# Altium schematic symbol library ILD206T.Schlib: 1 symbol
Pins are listed as number, name and electrical type; pins without a type are passive.

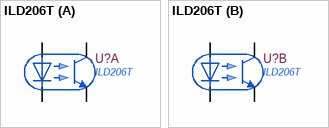
[diagram p0: symbol ILD206T]

## ILD206T
designator U?
OPTOISOLTR 4KV 2CH TRANS 8-SOIC; Manufacturer 1: Vishay Semiconductors; Max Power Dissipation: 300mW; Forward Current: 30mA; Number of Channels: 2; Collector Emitter Voltage (VCEO): 70V; Reverse Breakdown Voltage: 6V; Forward Voltage: 1.55V; Collector Emitter Saturation Voltage: 400mV; Rise Time: 3us; Fall Time: 4.7us; Current Transfer Ratio: 125%; Input Current: 10mA; Voltage Rating (DC): 5V; Approvals: UL; Supplier 1: Digi-Key; Manufacturer Part Number 1: ILD206T; Stock 1: 1775; Pricing 1: 1=1.42000, 10=1.15000, 100=0.70770, 500=0.60154, 1000=0.49539 (USD); RoHS: Yes; Mount: Surface Mount; Case/Package: SOIC; Number of Pins: 8; Contact Plating: Tin; Min Operating Temperature: -55°C; Max Operating Temperature: 100°C; Packaging: Tape and Reel; Package Quantity: 1; Output Voltage: 70V; Max Output Voltage: 70V; Isolation Voltage: 4kV; Max Input Current: 30mA; Number of Elements: 2; Power Dissipation: 300mW; Collector Emitter Breakdown Voltage: 70V; Radiation Hardening: No; REACH SVHC: Unknown; Lead Free: Lead Free; ComponentLink1URL: https://datasheet.ciiva.com/8040/6546-8040800.pdf?src-supplier=Element14; ComponentLink1Description: https://datasheet.ciiva.com/8040/6546-8040800.pdf?src-supplier=Element14; ComponentLink2URL: https://datasheet.ciiva.com/15118/getdatasheetpartid-90557-15118533.pdf?src-supplier=Verical; ComponentLink2Description: https://datasheet.ciiva.com/15118/getdatasheetpartid-90557-15118533.pdf?src-supplier=Verical; ComponentLink3URL: https://datasheet.ciiva.com/11771/0900766b80800ea7-11771944.pdf?src-supplier=RSComponents; ComponentLink3Description: https://datasheet.ciiva.com/11771/0900766b80800ea7-11771944.pdf?src-supplier=RSComponents; ComponentLink4URL: https://datasheet.ciiva.com/14169/wr630131-630134-e-14169304.pdf?src-supplier=Distrelec; ComponentLink4Description: https://datasheet.ciiva.com/14169/wr630131-630134-e-14169304.pdf?src-supplier=Distrelec; ComponentLink5URL: https://datasheet.ciiva.com/29301/153399-da-01-en-optokoppler-ild206-t-soic8-vis-29301383.pdf?src-supplier=Conrad; ComponentLink5Description: https://datasheet.ciiva.com/29301/153399-da-01-en-optokoppler-ild206-t-soic8-vis-29301383.pdf?src-supplier=Conrad; ComponentLink6URL: https://datasheet.ciiva.com/18445/70061477-18445110.pdf?src-supplier=Allied+Electronics; ComponentLink6Description: https://datasheet.ciiva.com/18445/70061477-18445110.pdf?src-supplier=Allied+Electronics; ComponentLink7URL: https://datasheet.ciiva.com/12242/ild205t-244792-12242999.pdf?src-supplier=Mouser; ComponentLink7Description: https://datasheet.ciiva.com/12242/ild205t-244792-12242999.pdf?src-supplier=Mouser; ComponentLink8URL: https://datasheet.ciiva.com/2086/ild205t-2086025.pdf?src-supplier=Digi-Key; ComponentLink8Description: https://datasheet.ciiva.com/2086/ild205t-2086025.pdf?src-supplier=Digi-Key; ComponentLink9URL: https://datasheet.ciiva.com/2086/ild205t-2086026.pdf?src-supplier=Digi-Key; ComponentLink9Description: https://datasheet.ciiva.com/2086/ild205t-2086026.pdf?src-supplier=Digi-Key; ComponentLink10URL: https://datasheet.ciiva.com/2086/ild205t-2086027.pdf?src-supplier=Digi-Key; ComponentLink10Description: https://datasheet.ciiva.com/2086/ild205t-2086027.pdf?src-supplier=Digi-Key; ComponentLink11URL: https://datasheet.ciiva.com/3305/ild205t-3305918.pdf?src-supplier=Avnet; ComponentLink11Description: https://datasheet.ciiva.com/3305/ild205t-3305918.pdf?src-supplier=Avnet; ComponentLink12URL: https://datasheet.ciiva.com/26321/485037-26321070.pdf?src-supplier=Element14; ComponentLink12Description: https://datasheet.ciiva.com/26321/485037-26321070.pdf?src-supplier=Element14; Supplier Part Number 1: 751-1309-1-ND
footprint SOIC-8 (Tall version of SOIC-8)
part A pins: 1 A1, 2 K1, 7 E1, 8 C1
part B pins: 3 A2, 4 K2, 5 E2, 6 C2